# Altium schematic symbol library SnapEDAsch.SchLib: 1 symbol
Pins are listed as number, name and electrical type; pins without a type are passive.

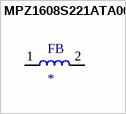
[diagram p0: symbol MPZ1608S221ATA00]

## MPZ1608S221ATA00
designator FB
220 Ohms @ 100MHz 1 Power Line Ferrite Bead 0603 _1608 Metric_ 2.2A 50mOhm; MP: MPZ1608S221ATA00; MF: TDK; Package: 0603 TDK; Digi-Key_Purchase_URL: https://www.digikey.com/product-detail/en/tdk-corporation/MPZ1608S221ATA00/445-1565-1-ND/571895?utm_source=snapeda&utm_medium=aggregator&utm_campaign=symbol; Digi-Key_Part_Number: 445-1565-1-ND; Value: *; SnapEDA_Link: https://www.snapeda.com/parts/MPZ1608S221ATA00/TDK-Lambda%20Americas%20Inc/view-part/48035/?ref=snap
footprint INDC1608X80
pins: 1, 2